# Altium footprint library MiniDIP.PcbLib: 1 footprints
Each footprint in its own frame and in the unit in brackets; x right, y up, seen from the top. Pads: shape width x height; smd on the part's side, far side on the other; paste and mask are expansions set on the pad; w line width, h text height; cw(c..) or ccw(c..) is an arc to the next point about the centre after c.
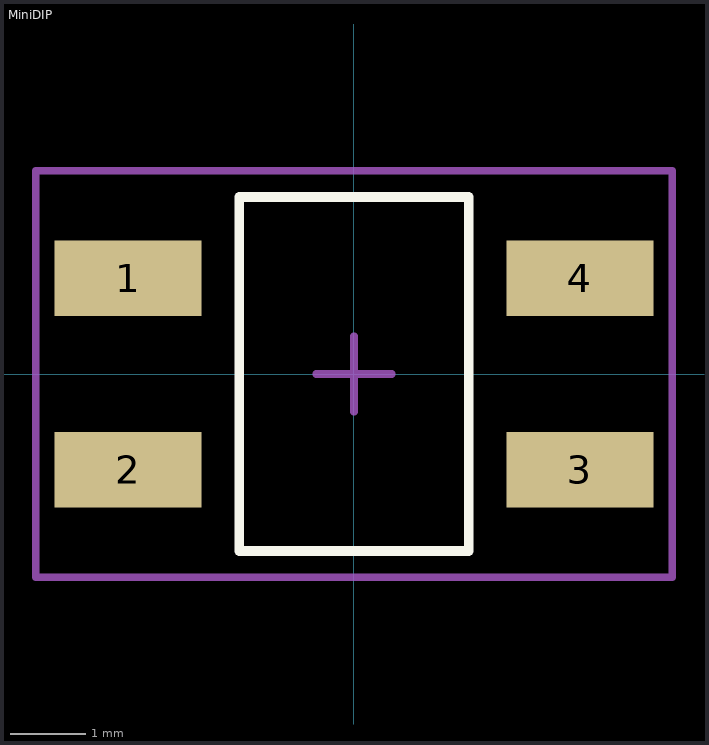
[diagram p0: the footprint, top view; thin cyan lines are the x and y axes]

## MiniDIP [mm] "SOIC, 4-Leads, Body 4,9x4,0mm (max), Pitch 1,27mm, IPC Medium Density"
height 3
pads (4):
  rect 1.95x1 smd: 1(-3,1.27) 2(-3,-1.27) 3(3,-1.27) 4(3,1.27)
Top Overlay:
  lines w0.127: -1.524,-2.35 -1.524,2.35 1.524,2.35 1.524,-2.35 -1.524,-2.35
  text "." at -4.826,1.27 h0.38
Mechanical 15:
  lines w0.1: -0.5,0 0.5,0 ; 0,-0.5 0,0.5 ; -4.225,-2.7 4.225,-2.7 4.225,2.7 -4.225,2.7 -4.225,-2.7
3D body "User Library-Bridge SMD TO-269AA.step": height 2.91, standoff 0, extent -3.52,-2.475 3.52,2.475